# Altium footprint library Btn_Vert.PcbLib: 1 footprints
Each footprint in its own frame and in the unit in brackets; x right, y up, seen from the top. Pads: shape width x height; smd on the part's side, far side on the other; paste and mask are expansions set on the pad; w line width, h text height; cw(c..) or ccw(c..) is an arc to the next point about the centre after c.
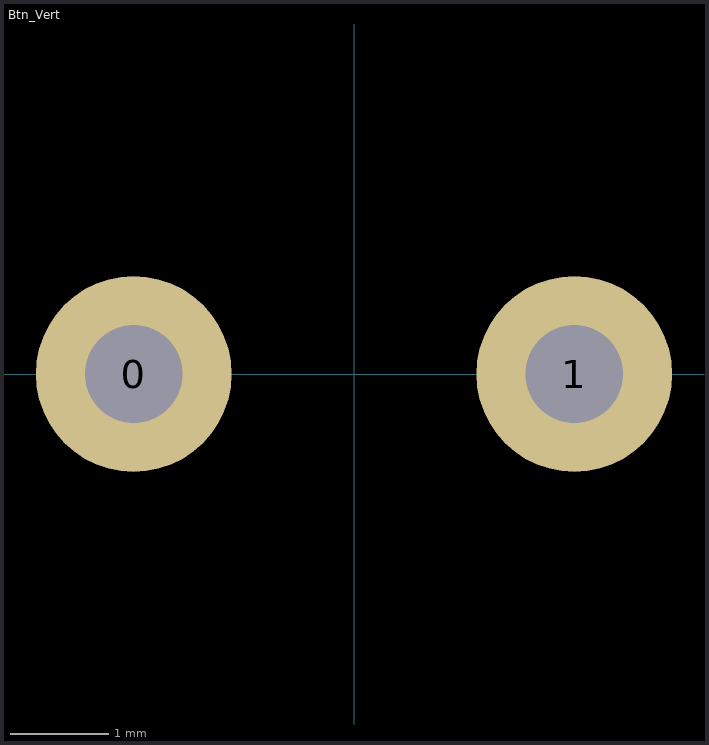
[diagram p0: the footprint, top view; thin cyan lines are the x and y axes]

## Btn_Vert [mm] "Vertical 6x6mm button"
pads (2):
  round 2 hole 1: 0(-2.25,0) 1(2.25,0)
3D body: height 6, standoff 0, extent -3,-2.5 3,0.75
3D body: height 6, standoff 0, extent -3,-2.75 3,-2.5
3D body: height 4.75, standoff 1.25, extent -1.75,-3.5 1.75,-2.5
3D body: height 1.05, standoff 0.45, extent -2.55,-2.8 -1.95,-2.5
3D body: height 1.05, standoff 0.45, extent 1.95,-2.8 2.55,-2.5
3D body: height 5.55, standoff 4.95, extent -2.55,-2.8 -1.95,-2.5
3D body: height 5.55, standoff 4.95, extent 1.95,-2.8 2.55,-2.5